# Altium schematic symbol library Terminal_Blocks_Pluggable_3.81mm.SchLib: 21 symbols
Pins are listed as number, name and electrical type; pins without a type are passive.

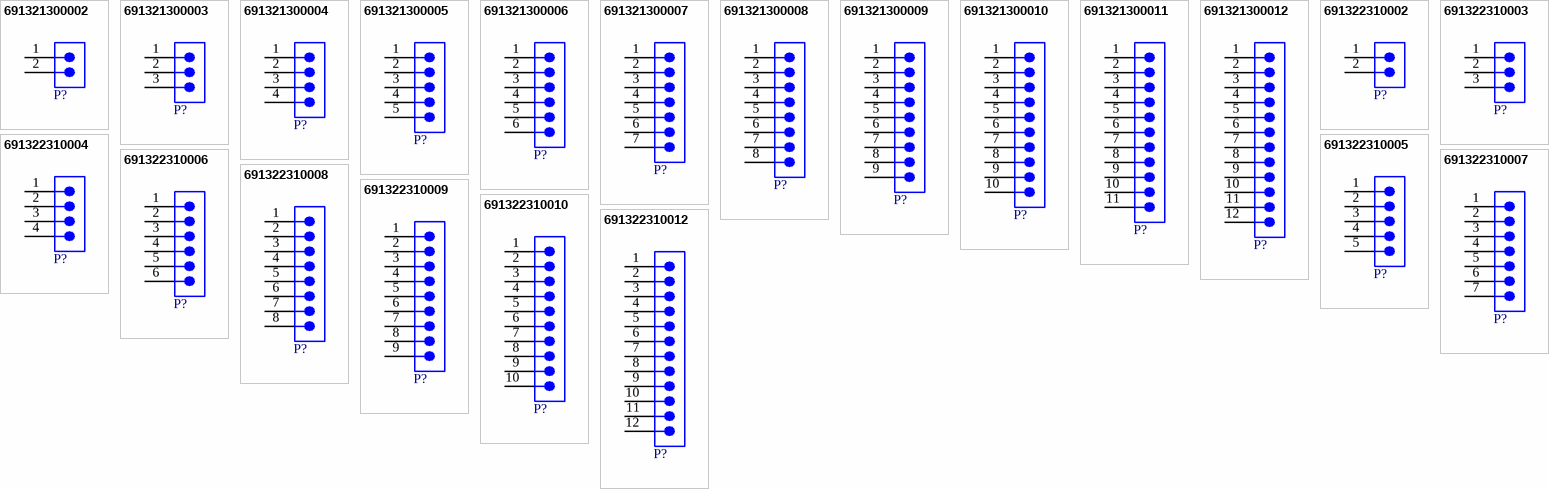
[diagram p0: symbols 691321300002 to 691322310012]

## 691321300002
designator P?, comment 10A, 300V  (value not drawn)
WR-TBL Series 321 Vertical PCB Header, THT, pitch 3.81mm, 2p; Manufacturer Part Number: 691321300002; Manufacturer: Wurth Elektronik; Modularity: No; ComponentLink1Description: Datasheet Link; ComponentLink1URL: https://www.we-online.com/redexpert/spec/691321300002?ad; ComponentLink2Description: Supplier 1 URL; ComponentLink2URL: N/A; Category: Terminal Blocks; Match Code: WR-TBL; Mount: Through Hole; Operating Temperature Max: 105°C; Operating Temperature Min: -40°C; Packaging: Box; Application: Pluggable; Number of Pins: 2; Number of Rows: 1; Orientation: Vertical; Pitch: 3.81mm; Rated Current: 10A; Working Voltage: 300V; ComponentLink3Description: Supplier 2 URL; ComponentLink3URL: N/A; ComponentLink4Description: Supplier 3 URL; ComponentLink4URL: https://www.thegioiic.com/ul-3-81-2-v-terminal-block-plug-in-han-pcb-2-chan-thang-3-81mm-300v-10a-ulo; Supplier 1 Name: Mouser; Supplier 1 SN: N/A; Supplier 1 URL: N/A; Supplier 2 Name: Digi-Key; Supplier 2 SN: N/A; Supplier 2 URL: N/A; Supplier 3 Name: thegioiic; Supplier 3 SN: N/A; Supplier 3 URL: https://www.thegioiic.com/ul-3-81-2-v-terminal-block-plug-in-han-pcb-2-chan-thang-3-81mm-300v-10a-ulo; Value: 10A, 300V
footprint 691321300002
pins: 1, 2

## 691321300003
designator P?, comment 10A, 300V  (value not drawn)
WR-TBL Series 321 Vertical PCB Header, THT, pitch 3.81mm, 3p; Manufacturer Part Number: 691321300003; Manufacturer: Wurth Elektronik; Modularity: No; ComponentLink1Description: Datasheet Link; ComponentLink1URL: https://www.we-online.com/redexpert/spec/691321300003?ad; ComponentLink2Description: Supplier 1 URL; ComponentLink2URL: N/A; Category: Terminal Blocks; Match Code: WR-TBL; Mount: Through Hole; Operating Temperature Max: 105°C; Operating Temperature Min: -40°C; Packaging: Box; Application: Pluggable; Number of Pins: 3; Number of Rows: 1; Orientation: Vertical; Pitch: 3.81mm; Rated Current: 10A; Working Voltage: 300V; ComponentLink3Description: Supplier 2 URL; ComponentLink3URL: N/A; ComponentLink4Description: Supplier 3 URL; ComponentLink4URL: https://www.thegioiic.com/kf-3-81-3-v-terminal-block-plug-in-han-pcb-3-chan-thang-3-81mm-300v-10a; Supplier 1 Name: Mouser; Supplier 1 SN: N/A; Supplier 1 URL: N/A; Supplier 2 Name: Digi-Key; Supplier 2 SN: N/A; Supplier 2 URL: N/A; Supplier 3 Name: thegioiic; Supplier 3 SN: N/A; Supplier 3 URL: https://www.thegioiic.com/kf-3-81-3-v-terminal-block-plug-in-han-pcb-3-chan-thang-3-81mm-300v-10a; Value: 10A, 300V
footprint 691321300003
pins: 1, 2, 3

## 691321300004
designator P?, comment 10A, 300V  (value not drawn)
WR-TBL Series 321 Vertical PCB Header, THT, pitch 3.81mm, 4p; Manufacturer Part Number: 691321300004; Manufacturer: Wurth Elektronik; Modularity: No; ComponentLink1Description: Datasheet Link; ComponentLink1URL: https://www.we-online.com/redexpert/spec/691321300004?ad; ComponentLink2Description: Supplier 1 URL; ComponentLink2URL: N/A; Category: Terminal Blocks; Match Code: WR-TBL; Mount: Through Hole; Operating Temperature Max: 105°C; Operating Temperature Min: -40°C; Packaging: Box; Application: Pluggable; Number of Pins: 4; Number of Rows: 1; Orientation: Vertical; Pitch: 3.81mm; Rated Current: 10A; Working Voltage: 300V; ComponentLink3Description: Supplier 2 URL; ComponentLink3URL: N/A; ComponentLink4Description: Supplier 3 URL; ComponentLink4URL: https://www.thegioiic.com/kf-3-81-4-v-terminal-block-plug-in-han-pcb-4-chan-thang-3-81mm-300v-10a; Supplier 1 Name: Mouser; Supplier 1 SN: N/A; Supplier 1 URL: N/A; Supplier 2 Name: Digi-Key; Supplier 2 SN: N/A; Supplier 2 URL: N/A; Supplier 3 Name: thegioiic; Supplier 3 SN: N/A; Supplier 3 URL: https://www.thegioiic.com/kf-3-81-4-v-terminal-block-plug-in-han-pcb-4-chan-thang-3-81mm-300v-10a; Value: 10A, 300V
footprint 691321300004
pins: 1, 2, 3, 4

## 691321300005
designator P?, comment 10A, 300V  (value not drawn)
WR-TBL Series 321 Vertical PCB Header, THT, pitch 3.81mm, 5p; Manufacturer Part Number: 691321300005; Manufacturer: Wurth Elektronik; Modularity: No; ComponentLink1Description: Datasheet Link; ComponentLink1URL: https://www.we-online.com/redexpert/spec/691321300005?ad; ComponentLink2Description: Supplier 1 URL; ComponentLink2URL: N/A; Category: Terminal Blocks; Match Code: WR-TBL; Mount: Through Hole; Operating Temperature Max: 105°C; Operating Temperature Min: -40°C; Packaging: Box; Application: Pluggable; Number of Pins: 5; Number of Rows: 1; Orientation: Vertical; Pitch: 3.81mm; Rated Current: 10A; Working Voltage: 300V; ComponentLink3Description: Supplier 2 URL; ComponentLink3URL: N/A; ComponentLink4Description: Supplier 3 URL; ComponentLink4URL: https://www.thegioiic.com/kf-3-81-5-v-terminal-block-plug-in-han-pcb-5-chan-thang-3-81mm-300v-10a; Supplier 1 Name: Mouser; Supplier 1 SN: N/A; Supplier 1 URL: N/A; Supplier 2 Name: Digi-Key; Supplier 2 SN: N/A; Supplier 2 URL: N/A; Supplier 3 Name: thegioiic; Supplier 3 SN: N/A; Supplier 3 URL: https://www.thegioiic.com/kf-3-81-5-v-terminal-block-plug-in-han-pcb-5-chan-thang-3-81mm-300v-10a; Value: 10A, 300V
footprint 691321300005
pins: 1, 2, 3, 4, 5

## 691321300006
designator P?, comment 10A, 300V  (value not drawn)
WR-TBL Series 321 Vertical PCB Header, THT, pitch 3.81mm, 6p; Manufacturer Part Number: 691321300006; Manufacturer: Wurth Elektronik; Modularity: No; ComponentLink1Description: Datasheet Link; ComponentLink1URL: https://www.we-online.com/redexpert/spec/691321300006?ad; ComponentLink2Description: Supplier 1 URL; ComponentLink2URL: N/A; Category: Terminal Blocks; Match Code: WR-TBL; Mount: Through Hole; Operating Temperature Max: 105°C; Operating Temperature Min: -40°C; Packaging: Box; Application: Pluggable; Number of Pins: 6; Number of Rows: 1; Orientation: Vertical; Pitch: 3.81mm; Rated Current: 10A; Working Voltage: 300V; ComponentLink3Description: Supplier 2 URL; ComponentLink3URL: N/A; ComponentLink4Description: Supplier 3 URL; ComponentLink4URL: https://www.thegioiic.com/kf-3-81-6-v-terminal-block-plug-in-han-pcb-6-chan-thang-3-81mm-300v-10a; Supplier 1 Name: Mouser; Supplier 1 SN: N/A; Supplier 1 URL: N/A; Supplier 2 Name: Digi-Key; Supplier 2 SN: N/A; Supplier 2 URL: N/A; Supplier 3 Name: thegioiic; Supplier 3 SN: N/A; Supplier 3 URL: https://www.thegioiic.com/kf-3-81-6-v-terminal-block-plug-in-han-pcb-6-chan-thang-3-81mm-300v-10a; Value: 10A, 300V
footprint 691321300006
pins: 1, 2, 3, 4, 5, 6

## 691321300007
designator P?, comment 10A, 300V  (value not drawn)
WR-TBL Series 321 Vertical PCB Header, THT, pitch 3.81mm, 7p; Manufacturer Part Number: 691321300007; Manufacturer: Wurth Elektronik; Modularity: No; ComponentLink1Description: Datasheet Link; ComponentLink1URL: https://www.we-online.com/redexpert/spec/691321300007?ad; ComponentLink2Description: Supplier 1 URL; ComponentLink2URL: N/A; Category: Terminal Blocks; Match Code: WR-TBL; Mount: Through Hole; Operating Temperature Max: 105°C; Operating Temperature Min: -40°C; Packaging: Box; Application: Pluggable; Number of Pins: 7; Number of Rows: 1; Orientation: Vertical; Pitch: 3.81mm; Rated Current: 10A; Working Voltage: 300V; ComponentLink3Description: Supplier 2 URL; ComponentLink3URL: N/A; ComponentLink4Description: Supplier 3 URL; ComponentLink4URL: https://www.thegioiic.com/ul-3-81-7-v-terminal-block-plug-in-han-pcb-7-chan-thang-3-81mm-300v-10a-ulo; Supplier 1 Name: Mouser; Supplier 1 SN: N/A; Supplier 1 URL: N/A; Supplier 2 Name: Digi-Key; Supplier 2 SN: N/A; Supplier 2 URL: N/A; Supplier 3 Name: thegioiic; Supplier 3 SN: N/A; Supplier 3 URL: https://www.thegioiic.com/ul-3-81-7-v-terminal-block-plug-in-han-pcb-7-chan-thang-3-81mm-300v-10a-ulo; Value: 10A, 300V
footprint 691321300007
pins: 1, 2, 3, 4, 5, 6, 7

## 691321300008
designator P?, comment 10A, 300V  (value not drawn)
WR-TBL Series 321 Vertical PCB Header, THT, pitch 3.81mm, 8p; Manufacturer Part Number: 691321300008; Manufacturer: Wurth Elektronik; Modularity: No; ComponentLink1Description: Datasheet Link; ComponentLink1URL: https://www.we-online.com/redexpert/spec/691321300008?ad; ComponentLink2Description: Supplier 1 URL; ComponentLink2URL: N/A; Category: Terminal Blocks; Match Code: WR-TBL; Mount: Through Hole; Operating Temperature Max: 105°C; Operating Temperature Min: -40°C; Packaging: Box; Application: Pluggable; Number of Pins: 8; Number of Rows: 1; Orientation: Vertical; Pitch: 3.81mm; Rated Current: 10A; Working Voltage: 300V; ComponentLink3Description: Supplier 2 URL; ComponentLink3URL: N/A; ComponentLink4Description: Supplier 3 URL; ComponentLink4URL: https://www.thegioiic.com/kf-3-81-8-v-terminal-block-plug-in-han-pcb-8-chan-thang-3-81mm-300v-10a; Supplier 1 Name: Mouser; Supplier 1 SN: N/A; Supplier 1 URL: N/A; Supplier 2 Name: Digi-Key; Supplier 2 SN: N/A; Supplier 2 URL: N/A; Supplier 3 Name: thegioiic; Supplier 3 SN: N/A; Supplier 3 URL: https://www.thegioiic.com/kf-3-81-8-v-terminal-block-plug-in-han-pcb-8-chan-thang-3-81mm-300v-10a; Value: 10A, 300V
footprint 691321300008
pins: 1, 2, 3, 4, 5, 6, 7, 8

## 691321300009
designator P?, comment 10A, 300V  (value not drawn)
WR-TBL Series 321 Vertical PCB Header, THT, pitch 3.81mm, 9p; Manufacturer Part Number: 691321300009; Manufacturer: Wurth Elektronik; Modularity: No; ComponentLink1Description: Datasheet Link; ComponentLink1URL: https://www.we-online.com/redexpert/spec/691321300009?ad; ComponentLink2Description: Supplier 1 URL; ComponentLink2URL: N/A; Category: Terminal Blocks; Match Code: WR-TBL; Mount: Through Hole; Operating Temperature Max: 105°C; Operating Temperature Min: -40°C; Packaging: Box; Application: Pluggable; Number of Pins: 9; Number of Rows: 1; Orientation: Vertical; Pitch: 3.81mm; Rated Current: 10A; Working Voltage: 300V; ComponentLink3Description: Supplier 2 URL; ComponentLink3URL: N/A; ComponentLink4Description: Supplier 3 URL; ComponentLink4URL: https://www.thegioiic.com/kf-3-81-9-v-terminal-block-plug-in-han-pcb-9-chan-thang-3-81mm-300v-10a; Supplier 1 Name: Mouser; Supplier 1 SN: N/A; Supplier 1 URL: N/A; Supplier 2 Name: Digi-Key; Supplier 2 SN: N/A; Supplier 2 URL: N/A; Supplier 3 Name: thegioiic; Supplier 3 SN: N/A; Supplier 3 URL: https://www.thegioiic.com/kf-3-81-9-v-terminal-block-plug-in-han-pcb-9-chan-thang-3-81mm-300v-10a; Value: 10A, 300V
footprint 691321300009
pins: 1, 2, 3, 4, 5, 6, 7, 8, 9

## 691321300010
designator P?, comment 10A, 300V  (value not drawn)
WR-TBL Series 321 Vertical PCB Header, THT, pitch 3.81mm, 10p; Manufacturer Part Number: 691321300010; Manufacturer: Wurth Elektronik; Modularity: No; ComponentLink1Description: Datasheet Link; ComponentLink1URL: https://www.we-online.com/redexpert/spec/691321300010?ad; ComponentLink2Description: Supplier 1 URL; ComponentLink2URL: N/A; Category: Terminal Blocks; Match Code: WR-TBL; Mount: Through Hole; Operating Temperature Max: 105°C; Operating Temperature Min: -40°C; Packaging: Box; Application: Pluggable; Number of Pins: 10; Number of Rows: 1; Orientation: Vertical; Pitch: 3.81mm; Rated Current: 10A; Working Voltage: 300V; ComponentLink3Description: Supplier 2 URL; ComponentLink3URL: N/A; ComponentLink4Description: Supplier 3 URL; ComponentLink4URL: https://www.thegioiic.com/kf-3-81-10-v-terminal-block-plug-in-han-pcb-10-chan-thang-3-81mm-300v-10a; Supplier 1 Name: Mouser; Supplier 1 SN: N/A; Supplier 1 URL: N/A; Supplier 2 Name: Digi-Key; Supplier 2 SN: N/A; Supplier 2 URL: N/A; Supplier 3 Name: thegioiic; Supplier 3 SN: N/A; Supplier 3 URL: https://www.thegioiic.com/kf-3-81-10-v-terminal-block-plug-in-han-pcb-10-chan-thang-3-81mm-300v-10a; Value: 10A, 300V
footprint 691321300010
pins: 1, 2, 3, 4, 5, 6, 7, 8, 9, 10

## 691321300011
designator P?, comment 10A, 300V  (value not drawn)
WR-TBL Series 321 Vertical PCB Header, THT, pitch 3.81mm, 11p; Manufacturer Part Number: 691321300011; Manufacturer: Wurth Elektronik; Modularity: No; ComponentLink1Description: Datasheet Link; ComponentLink1URL: https://www.we-online.com/redexpert/spec/691321300011?ad; ComponentLink2Description: Supplier 1 URL; ComponentLink2URL: N/A; Category: Terminal Blocks; Match Code: WR-TBL; Mount: Through Hole; Operating Temperature Max: 105°C; Operating Temperature Min: -40°C; Packaging: Box; Application: Pluggable; Number of Pins: 11; Number of Rows: 1; Orientation: Vertical; Pitch: 3.81mm; Rated Current: 10A; Working Voltage: 300V; ComponentLink3Description: Supplier 2 URL; ComponentLink3URL: N/A; ComponentLink4Description: Supplier 3 URL; ComponentLink4URL: https://www.thegioiic.com/kf-3-81-11-v-terminal-block-plug-in-han-pcb-11-chan-thang-3-81mm-300v-10a; Supplier 1 Name: Mouser; Supplier 1 SN: N/A; Supplier 1 URL: N/A; Supplier 2 Name: Digi-Key; Supplier 2 SN: N/A; Supplier 2 URL: N/A; Supplier 3 Name: thegioiic; Supplier 3 SN: N/A; Supplier 3 URL: https://www.thegioiic.com/kf-3-81-11-v-terminal-block-plug-in-han-pcb-11-chan-thang-3-81mm-300v-10a; Value: 10A, 300V
footprint 691321300011
pins: 1, 2, 3, 4, 5, 6, 7, 8, 9, 10, 11

## 691321300012
designator P?, comment 10A, 300V  (value not drawn)
WR-TBL Series 321 Vertical PCB Header, THT, pitch 3.81mm, 12p; Manufacturer Part Number: 691321300012; Manufacturer: Wurth Elektronik; Modularity: No; ComponentLink1Description: Datasheet Link; ComponentLink1URL: https://www.we-online.com/redexpert/spec/691321300012?ad; ComponentLink2Description: Supplier 1 URL; ComponentLink2URL: N/A; Category: Terminal Blocks; Match Code: WR-TBL; Mount: Through Hole; Operating Temperature Max: 105°C; Operating Temperature Min: -40°C; Packaging: Box; Application: Pluggable; Number of Pins: 12; Number of Rows: 1; Orientation: Vertical; Pitch: 3.81mm; Rated Current: 10A; Working Voltage: 300V; ComponentLink3Description: Supplier 2 URL; ComponentLink3URL: N/A; ComponentLink4Description: Supplier 3 URL; ComponentLink4URL: https://www.thegioiic.com/kf-3-81-12-v-terminal-block-plug-in-han-pcb-12-chan-thang-3-81mm-300v-10a; Supplier 1 Name: Mouser; Supplier 1 SN: N/A; Supplier 1 URL: N/A; Supplier 2 Name: Digi-Key; Supplier 2 SN: N/A; Supplier 2 URL: N/A; Supplier 3 Name: thegioiic; Supplier 3 SN: N/A; Supplier 3 URL: https://www.thegioiic.com/kf-3-81-12-v-terminal-block-plug-in-han-pcb-12-chan-thang-3-81mm-300v-10a; Value: 10A, 300V
footprint 691321300012
pins: 1, 2, 3, 4, 5, 6, 7, 8, 9, 10, 11, 12

## 691322310002
designator P?, comment 10A, 300V  (value not drawn)
WR-TBL Series 322 Horizontal PCB Header, THT, pitch 3.81mm, 2p; Manufacturer Part Number: 691322310002; Manufacturer: Wurth Elektronik; Modularity: No; ComponentLink1Description: Datasheet Link; ComponentLink1URL: https://www.we-online.com/redexpert/spec/691322310002?ad; ComponentLink2Description: Supplier 1 URL; ComponentLink2URL: N/A; Category: Terminal Blocks; Match Code: WR-TBL; Mount: Through Hole; Operating Temperature Max: 105°C; Operating Temperature Min: -40°C; Packaging: Box; Application: Pluggable; Number of Pins: 2; Number of Rows: 1; Orientation: Horizontal; Pitch: 3.81mm; Rated Current: 10A; Working Voltage: 300V; ComponentLink3Description: Supplier 2 URL; ComponentLink3URL: N/A; ComponentLink4Description: Supplier 3 URL; ComponentLink4URL: https://www.thegioiic.com/kf-3-81-2-r-terminal-block-plug-in-han-pcb-2-chan-cong-3-81mm-300v-10a; Supplier 1 Name: Mouser; Supplier 1 SN: N/A; Supplier 1 URL: N/A; Supplier 2 Name: Digi-Key; Supplier 2 SN: N/A; Supplier 2 URL: N/A; Supplier 3 Name: thegioiic; Supplier 3 SN: N/A; Supplier 3 URL: https://www.thegioiic.com/kf-3-81-2-r-terminal-block-plug-in-han-pcb-2-chan-cong-3-81mm-300v-10a; Value: 10A, 300V
footprint 691322310002
pins: 1, 2

## 691322310003
designator P?, comment 10A, 300V  (value not drawn)
WR-TBL Series 322 Horizontal PCB Header, THT, pitch 3.81mm, 3p; Manufacturer Part Number: 691322310003; Manufacturer: Wurth Elektronik; Modularity: No; ComponentLink1Description: Datasheet Link; ComponentLink1URL: https://www.we-online.com/redexpert/spec/691322310003?ad; ComponentLink2Description: Supplier 1 URL; ComponentLink2URL: N/A; Category: Terminal Blocks; Match Code: WR-TBL; Mount: Through Hole; Operating Temperature Max: 105°C; Operating Temperature Min: -40°C; Packaging: Box; Application: Pluggable; Number of Pins: 3; Number of Rows: 1; Orientation: Horizontal; Pitch: 3.81mm; Rated Current: 10A; Working Voltage: 300V; ComponentLink3Description: Supplier 2 URL; ComponentLink3URL: N/A; ComponentLink4Description: Supplier 3 URL; ComponentLink4URL: https://www.thegioiic.com/ul-3-81-3-r-terminal-block-plug-in-han-pcb-3-chan-cong-3-81mm-300v-10a-ulo; Supplier 1 Name: Mouser; Supplier 1 SN: N/A; Supplier 1 URL: N/A; Supplier 2 Name: Digi-Key; Supplier 2 SN: N/A; Supplier 2 URL: N/A; Supplier 3 Name: thegioiic; Supplier 3 SN: N/A; Supplier 3 URL: https://www.thegioiic.com/ul-3-81-3-r-terminal-block-plug-in-han-pcb-3-chan-cong-3-81mm-300v-10a-ulo; Value: 10A, 300V
footprint 691322310003
pins: 1, 2, 3

## 691322310004
designator P?, comment 10A, 300V  (value not drawn)
WR-TBL Series 322 Horizontal PCB Header, THT, pitch 3.81mm, 4p; Manufacturer Part Number: 691322310004; Manufacturer: Wurth Elektronik; Modularity: No; ComponentLink1Description: Datasheet Link; ComponentLink1URL: https://www.we-online.com/redexpert/spec/691322310004?ad; ComponentLink2Description: Supplier 1 URL; ComponentLink2URL: N/A; Category: Terminal Blocks; Match Code: WR-TBL; Mount: Through Hole; Operating Temperature Max: 105°C; Operating Temperature Min: -40°C; Packaging: Box; Application: Pluggable; Number of Pins: 4; Number of Rows: 1; Orientation: Horizontal; Pitch: 3.81mm; Rated Current: 10A; Working Voltage: 300V; ComponentLink3Description: Supplier 2 URL; ComponentLink3URL: N/A; ComponentLink4Description: Supplier 3 URL; ComponentLink4URL: https://www.thegioiic.com/kf-3-81-4-r-terminal-block-plug-in-han-pcb-4-chan-cong-3-81mm-300v-10a; Supplier 1 Name: Mouser; Supplier 1 SN: N/A; Supplier 1 URL: N/A; Supplier 2 Name: Digi-Key; Supplier 2 SN: N/A; Supplier 2 URL: N/A; Supplier 3 Name: thegioiic; Supplier 3 SN: N/A; Supplier 3 URL: https://www.thegioiic.com/kf-3-81-4-r-terminal-block-plug-in-han-pcb-4-chan-cong-3-81mm-300v-10a; Value: 10A, 300V
footprint 691322310004
pins: 1, 2, 3, 4

## 691322310005
designator P?, comment 10A, 300V  (value not drawn)
WR-TBL Series 322 Horizontal PCB Header, THT, pitch 3.81mm, 5p; Manufacturer Part Number: 691322310005; Manufacturer: Wurth Elektronik; Modularity: No; ComponentLink1Description: Datasheet Link; ComponentLink1URL: https://www.we-online.com/redexpert/spec/691322310005?ad; ComponentLink2Description: Supplier 1 URL; ComponentLink2URL: N/A; Category: Terminal Blocks; Match Code: WR-TBL; Mount: Through Hole; Operating Temperature Max: 105°C; Operating Temperature Min: -40°C; Packaging: Box; Application: Pluggable; Number of Pins: 5; Number of Rows: 1; Orientation: Horizontal; Pitch: 3.81mm; Rated Current: 10A; Working Voltage: 300V; ComponentLink3Description: Supplier 2 URL; ComponentLink3URL: N/A; ComponentLink4Description: Supplier 3 URL; ComponentLink4URL: https://www.thegioiic.com/kf-3-81-5-r-terminal-block-plug-in-han-pcb-5-chan-cong-3-81mm-300v-10a; Supplier 1 Name: Mouser; Supplier 1 SN: N/A; Supplier 1 URL: N/A; Supplier 2 Name: Digi-Key; Supplier 2 SN: N/A; Supplier 2 URL: N/A; Supplier 3 Name: thegioiic; Supplier 3 SN: N/A; Supplier 3 URL: https://www.thegioiic.com/kf-3-81-5-r-terminal-block-plug-in-han-pcb-5-chan-cong-3-81mm-300v-10a; Value: 10A, 300V
footprint 691322310005
pins: 1, 2, 3, 4, 5

## 691322310006
designator P?, comment 10A, 300V  (value not drawn)
WR-TBL Series 322 Horizontal PCB Header, THT, pitch 3.81mm, 6p; Manufacturer Part Number: 691322310006; Manufacturer: Wurth Elektronik; Modularity: No; ComponentLink1Description: Datasheet Link; ComponentLink1URL: https://www.we-online.com/redexpert/spec/691322310006?ad; ComponentLink2Description: Supplier 1 URL; ComponentLink2URL: N/A; Category: Terminal Blocks; Match Code: WR-TBL; Mount: Through Hole; Operating Temperature Max: 105°C; Operating Temperature Min: -40°C; Packaging: Box; Application: Pluggable; Number of Pins: 6; Number of Rows: 1; Orientation: Horizontal; Pitch: 3.81mm; Rated Current: 10A; Working Voltage: 300V; ComponentLink3Description: Supplier 2 URL; ComponentLink3URL: N/A; ComponentLink4Description: Supplier 3 URL; ComponentLink4URL: https://www.thegioiic.com/kf-3-81-6-r-terminal-block-plug-in-han-pcb-6-chan-cong-3-81mm-300v-10a; Supplier 1 Name: Mouser; Supplier 1 SN: N/A; Supplier 1 URL: N/A; Supplier 2 Name: Digi-Key; Supplier 2 SN: N/A; Supplier 2 URL: N/A; Supplier 3 Name: thegioiic; Supplier 3 SN: N/A; Supplier 3 URL: https://www.thegioiic.com/kf-3-81-6-r-terminal-block-plug-in-han-pcb-6-chan-cong-3-81mm-300v-10a; Value: 10A, 300V
footprint 691322310006
pins: 1, 2, 3, 4, 5, 6

## 691322310007
designator P?, comment 10A, 300V  (value not drawn)
WR-TBL Series 322 Horizontal PCB Header, THT, pitch 3.81mm, 7p; Manufacturer Part Number: 691322310007; Manufacturer: Wurth Elektronik; Modularity: No; ComponentLink1Description: Datasheet Link; ComponentLink1URL: https://www.we-online.com/redexpert/spec/691322310007?ad; ComponentLink2Description: Supplier 1 URL; ComponentLink2URL: N/A; Category: Terminal Blocks; Match Code: WR-TBL; Mount: Through Hole; Operating Temperature Max: 105°C; Operating Temperature Min: -40°C; Packaging: Box; Application: Pluggable; Number of Pins: 7; Number of Rows: 1; Orientation: Horizontal; Pitch: 3.81mm; Rated Current: 10A; Working Voltage: 300V; ComponentLink3Description: Supplier 2 URL; ComponentLink3URL: N/A; ComponentLink4Description: Supplier 3 URL; ComponentLink4URL: https://www.thegioiic.com/kf-3-81-7-r-terminal-block-plug-in-han-pcb-7-chan-cong-3-81mm-300v-10a; Supplier 1 Name: Mouser; Supplier 1 SN: N/A; Supplier 1 URL: N/A; Supplier 2 Name: Digi-Key; Supplier 2 SN: N/A; Supplier 2 URL: N/A; Supplier 3 Name: thegioiic; Supplier 3 SN: N/A; Supplier 3 URL: https://www.thegioiic.com/kf-3-81-7-r-terminal-block-plug-in-han-pcb-7-chan-cong-3-81mm-300v-10a; Value: 10A, 300V
footprint 691322310007
pins: 1, 2, 3, 4, 5, 6, 7

## 691322310008
designator P?, comment 10A, 300V  (value not drawn)
WR-TBL Series 322 Horizontal PCB Header, THT, pitch 3.81mm, 8p; Manufacturer Part Number: 691322310008; Manufacturer: Wurth Elektronik; Modularity: No; ComponentLink1Description: Datasheet Link; ComponentLink1URL: https://www.we-online.com/redexpert/spec/691322310008?ad; ComponentLink2Description: Supplier 1 URL; ComponentLink2URL: N/A; Category: Terminal Blocks; Match Code: WR-TBL; Mount: Through Hole; Operating Temperature Max: 105°C; Operating Temperature Min: -40°C; Packaging: Box; Application: Pluggable; Number of Pins: 8; Number of Rows: 1; Orientation: Horizontal; Pitch: 3.81mm; Rated Current: 10A; Working Voltage: 300V; ComponentLink3Description: Supplier 2 URL; ComponentLink3URL: N/A; ComponentLink4Description: Supplier 3 URL; ComponentLink4URL: https://www.thegioiic.com/ul-3-81-8-r-terminal-block-plug-in-han-pcb-8-chan-cong-3-81mm-300v-10a-ulo; Supplier 1 Name: Mouser; Supplier 1 SN: N/A; Supplier 1 URL: N/A; Supplier 2 Name: Digi-Key; Supplier 2 SN: N/A; Supplier 2 URL: N/A; Supplier 3 Name: thegioiic; Supplier 3 SN: N/A; Supplier 3 URL: https://www.thegioiic.com/ul-3-81-8-r-terminal-block-plug-in-han-pcb-8-chan-cong-3-81mm-300v-10a-ulo; Value: 10A, 300V
footprint 691322310008
pins: 1, 2, 3, 4, 5, 6, 7, 8

## 691322310009
designator P?, comment 10A, 300V  (value not drawn)
WR-TBL Series 322 Horizontal PCB Header, THT, pitch 3.81mm, 9p; Manufacturer Part Number: 691322310009; Manufacturer: Wurth Elektronik; Modularity: No; ComponentLink1Description: Datasheet Link; ComponentLink1URL: https://www.we-online.com/redexpert/spec/691322310009?ad; ComponentLink2Description: Supplier 1 URL; ComponentLink2URL: N/A; Category: Terminal Blocks; Match Code: WR-TBL; Mount: Through Hole; Operating Temperature Max: 105°C; Operating Temperature Min: -40°C; Packaging: Box; Application: Pluggable; Number of Pins: 9; Number of Rows: 1; Orientation: Horizontal; Pitch: 3.81mm; Rated Current: 10A; Working Voltage: 300V; ComponentLink3Description: Supplier 2 URL; ComponentLink3URL: N/A; ComponentLink4Description: Supplier 3 URL; ComponentLink4URL: https://www.thegioiic.com/ul-3-81-9-r-terminal-block-plug-in-han-pcb-9-chan-cong-3-81mm-300v-10a-ulo; Supplier 1 Name: Mouser; Supplier 1 SN: N/A; Supplier 1 URL: N/A; Supplier 2 Name: Digi-Key; Supplier 2 SN: N/A; Supplier 2 URL: N/A; Supplier 3 Name: thegioiic; Supplier 3 SN: N/A; Supplier 3 URL: https://www.thegioiic.com/ul-3-81-9-r-terminal-block-plug-in-han-pcb-9-chan-cong-3-81mm-300v-10a-ulo; Value: 10A, 300V
footprint 691322310009
pins: 1, 2, 3, 4, 5, 6, 7, 8, 9

## 691322310010
designator P?, comment 10A, 300V  (value not drawn)
WR-TBL Series 322 Horizontal PCB Header, THT, pitch 3.81mm, 10p; Manufacturer Part Number: 691322310010; Manufacturer: Wurth Elektronik; Modularity: No; ComponentLink1Description: Datasheet Link; ComponentLink1URL: https://www.we-online.com/redexpert/spec/691322310010?ad; ComponentLink2Description: Supplier 1 URL; ComponentLink2URL: N/A; Category: Terminal Blocks; Match Code: WR-TBL; Mount: Through Hole; Operating Temperature Max: 105°C; Operating Temperature Min: -40°C; Packaging: Box; Application: Pluggable; Number of Pins: 10; Number of Rows: 1; Orientation: Horizontal; Pitch: 3.81mm; Rated Current: 10A; Working Voltage: 300V; ComponentLink3Description: Supplier 2 URL; ComponentLink3URL: N/A; ComponentLink4Description: Supplier 3 URL; ComponentLink4URL: https://www.thegioiic.com/kf-3-81-10-r-terminal-block-plug-in-han-pcb-10-chan-cong-3-81mm-300v-10a; Supplier 1 Name: Mouser; Supplier 1 SN: N/A; Supplier 1 URL: N/A; Supplier 2 Name: Digi-Key; Supplier 2 SN: N/A; Supplier 2 URL: N/A; Supplier 3 Name: thegioiic; Supplier 3 SN: N/A; Supplier 3 URL: https://www.thegioiic.com/kf-3-81-10-r-terminal-block-plug-in-han-pcb-10-chan-cong-3-81mm-300v-10a; Value: 10A, 300V
footprint 691322310010
pins: 1, 2, 3, 4, 5, 6, 7, 8, 9, 10

## 691322310012
designator P?, comment 10A, 300V  (value not drawn)
WR-TBL Series 322 Horizontal PCB Header, THT, pitch 3.81mm, 12p; Manufacturer Part Number: 691322310012; Manufacturer: Wurth Elektronik; Modularity: No; ComponentLink1Description: Datasheet Link; ComponentLink1URL: https://www.we-online.com/redexpert/spec/691322310012?ad; ComponentLink2Description: Supplier 1 URL; ComponentLink2URL: N/A; Category: Terminal Blocks; Match Code: WR-TBL; Mount: Through Hole; Operating Temperature Max: 105°C; Operating Temperature Min: -40°C; Packaging: Box; Application: Pluggable; Number of Pins: 12; Number of Rows: 1; Orientation: Horizontal; Pitch: 3.81mm; Rated Current: 10A; Working Voltage: 300V; ComponentLink3Description: Supplier 2 URL; ComponentLink3URL: N/A; ComponentLink4Description: Supplier 3 URL; ComponentLink4URL: https://www.thegioiic.com/ul-3-81-12-r-terminal-block-plug-in-han-pcb-12-chan-cong-3-81mm-300v-10a-ulo; Supplier 1 Name: Mouser; Supplier 1 SN: N/A; Supplier 1 URL: N/A; Supplier 2 Name: Digi-Key; Supplier 2 SN: N/A; Supplier 2 URL: N/A; Supplier 3 Name: thegioiic; Supplier 3 SN: N/A; Supplier 3 URL: https://www.thegioiic.com/ul-3-81-12-r-terminal-block-plug-in-han-pcb-12-chan-cong-3-81mm-300v-10a-ulo; Value: 10A, 300V
footprint 691322310012
pins: 1, 2, 3, 4, 5, 6, 7, 8, 9, 10, 11, 12